# EAGLE library part IMPULSE_GECKO_HEADER (library gecko)
Header on the impulse EPIC-esque board.
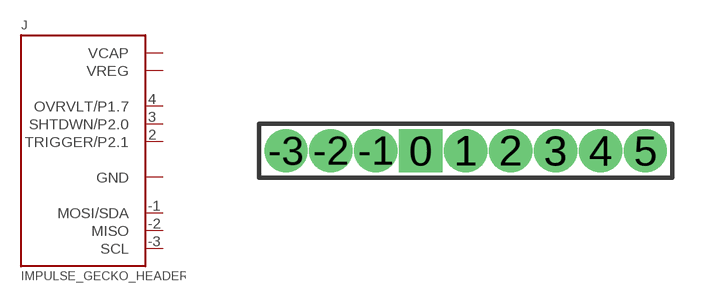
[diagram p11: symbol with the pads of HEADER1X9/0.05IN; footprint HEADER1X9/0.05IN]

Designator prefix J

## IMPULSE_GECKO_HEADER  [HEADER1X9/0.05IN]
0  GND
1  VREG
2  TRIGGER/P2.1
3  SHTDWN/P2.0
4  OVRVLT/P1.7
5  VCAP  out
-1  MOSI/SDA
-2  MISO
-3  SCL

## Footprint HEADER1X9/0.05IN (pad centres in mm)
drill 0.711 pad 1.016 square: 0 -1.27,0
drill 0.711 pad 1.016: 1 0,0; 2 1.27,0; 3 2.54,0; 4 3.81,0; 5 5.08,0; -1 -2.54,0; -2 -3.81,0; -3 -5.08,0